# Altium schematic symbol library 1725698.SchLib: 1 symbol
Pins are listed as number, name and electrical type; pins without a type are passive.

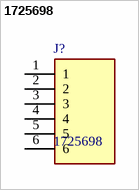
[diagram p0: symbol 1725698]

## 1725698
designator J?
Conn PC Terminal Block 6 POS 2.54mm Solder ST Thru-Hole 6A; Manufacturer_Name: Phoenix Contact; Geometry.Height: 8.65mm; Manufacturer_Part_Number: 1725698; Mouser Part Number: 651-1725698; Mouser Price/Stock: https://www.mouser.co.uk/ProductDetail/Phoenix-Contact/1725698?qs=Ul7CXFMnlWUIR3VpVwwC4A%3D%3D; Arrow Part Number: 1725698; Arrow Price/Stock: https://www.arrow.com/en/products/1725698/phoenix-contact?region=nac; Datasheet Link: https://www.phoenixcontact.com/online/portal/us/pxc/product_detail_page/!ut/p/z1/5Vddc6IwFP0r7oNvxYSPBHhEdNda6-KKW-GFISE6tHwVUmn76zeonY7dVmfH8WEH5s6QhHtv7jnJYeYCHyyBn4WbeB3yOM_CRMw9Hwdu3x0OHQXLP2eoD68HyB5OtF_yaKqA38AHfsUSRjmL7JCzdV6-AM-aTJoPPCTAk5tRQekD8B
footprint 1725698
pins: 1, 2, 3, 4, 5, 6